# Altium integrated library diodes-inc.IntLib: 3 symbols
Pins are listed as number, name and electrical type; pins without a type are passive.

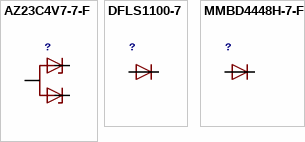
[diagram p0: symbols AZ23C4V7-7-F to MMBD4448H-7-F]

## AZ23C4V7-7-F
designator ?
footprint SOT23-3
pins: 1, 2, 3

## DFLS1100-7
designator ?
footprint POWERDI-123
pins: A, C

## MMBD4448H-7-F
designator ?
footprint SOT23-3
pins: 1 A, 3 C